# Altium footprint library BLDC_Board.PcbLib: 17 footprints (part 2 of 2)
Each footprint in its own frame and in the unit in brackets; x right, y up, seen from the top. Pads: shape width x height; smd on the part's side, far side on the other; paste and mask are expansions set on the pad; w line width, h text height; cw(c..) or ccw(c..) is an arc to the next point about the centre after c.
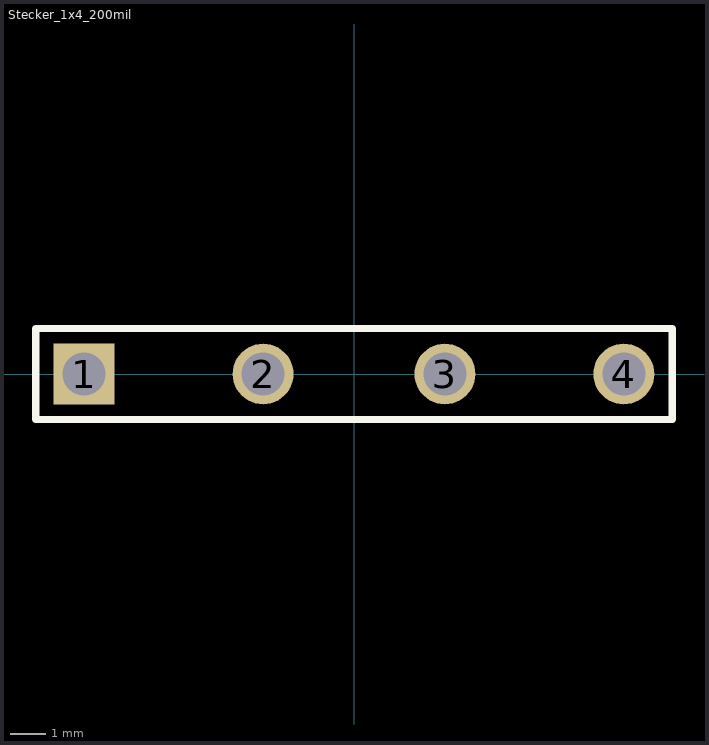
[diagram p1: the footprint, top view; thin cyan lines are the x and y axes]

## Stecker_1x4_200mil [mm]
pads (4):
  rect 1.7x1.7 hole 1.2: 1(-7.54,0)
  round 1.7 hole 1.2: 2(-2.54,0) 3(2.54,0) 4(7.54,0)
Top Overlay:
  lines w0.2: -8.89,-1.27 -8.89,1.27 8.89,1.27 8.89,-1.27 -8.89,-1.27